# Altium schematic symbol library SK-12F17-G_7.SchLib: 1 symbol
Pins are listed as number, name and electrical type; pins without a type are passive.

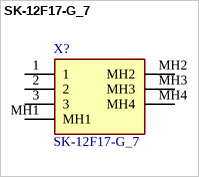
[diagram p0: symbol SK-12F17-G_7]

## SK-12F17-G_7
designator X?
Slide Switch SPDT Through Hole, 300MA 30V Right Angle; Manufacturer_Name: C & K COMPONENTS; Manufacturer_Part_Number: SK-12F17-G 7; Geometry.Height: 8mm; Mouser Part Number: 611-SK-12F17-G7; Mouser Price/Stock: https://www.mouser.com/Search/Refine.aspx?Keyword=611-SK-12F17-G7; Arrow Part Number: SK-12F17-G 7; Arrow Price/Stock: https://www.arrow.com/en/products/sk12f17g7/ck?region=nac; Datasheet Link: https://www.digikey.com/en/products/detail/c-k/SK-12F17-G-7/2747163
footprint SK12F17G7
pins: 1, 2, 3, MH1, MH2, MH3, MH4